# Altium schematic symbol library Schlib-Knob.SchLib: 1 symbol
Pins are listed as number, name and electrical type; pins without a type are passive.

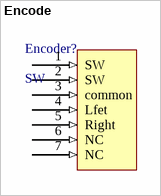
[diagram p0: symbol Encode]

## Encode
designator Encoder?, comment SW
Encoder PEC16
footprint Encoder PEC16 (Encoder PEC16-4220F-S0024)
pins: 1 SW (in), 2 SW (in), 3 common (in), 4 Lfet (in), 5 Right (in), 6 NC (in), 7 NC (in)